# EAGLE library part NS73M (library LM4880)
FM Transmitter 2mW transmitter NS73M. Easy SPI interface. Digital tuning. SKU: WRL-08452
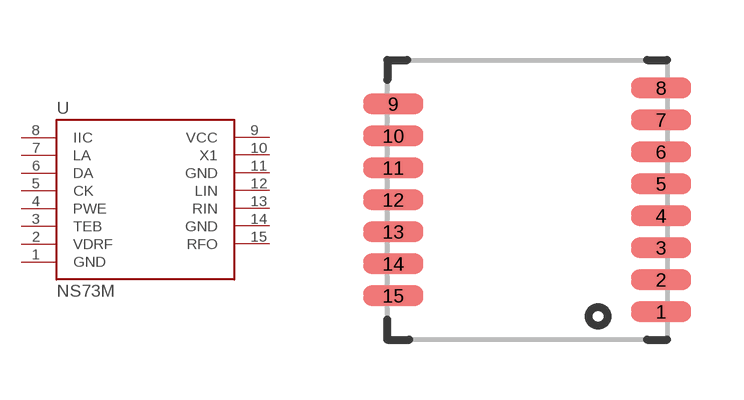
[diagram p97: symbol with the pads of NS73M; footprint NS73M]

Designator prefix U

## NS73MSMD  [NS73M]
1  GND
2  VDRF
3  TEB
4  PWE
5  CK
6  DA
7  LA
8  IIC
9  VCC
10  X1
11  GND
12  LIN
13  RIN
14  GND
15  RFO

## Footprint NS73M (pad centres in mm)
smd 1.5 x 0.5: 1 3.35,-2.8; 2 3.35,-2; 3 3.35,-1.2; 4 3.35,-0.4; 5 3.35,0.4; 6 3.35,1.2; 7 3.35,2; 8 3.35,2.8; 9 -3.35,2.4; 10 -3.35,1.6; 11 -3.35,0.8; 12 -3.35,0; 13 -3.35,-0.8; 14 -3.35,-1.6; 15 -3.35,-2.4